# Altium integrated library Resistor.IntLib: 15 symbols
Pins are listed as number, name and electrical type; pins without a type are passive.

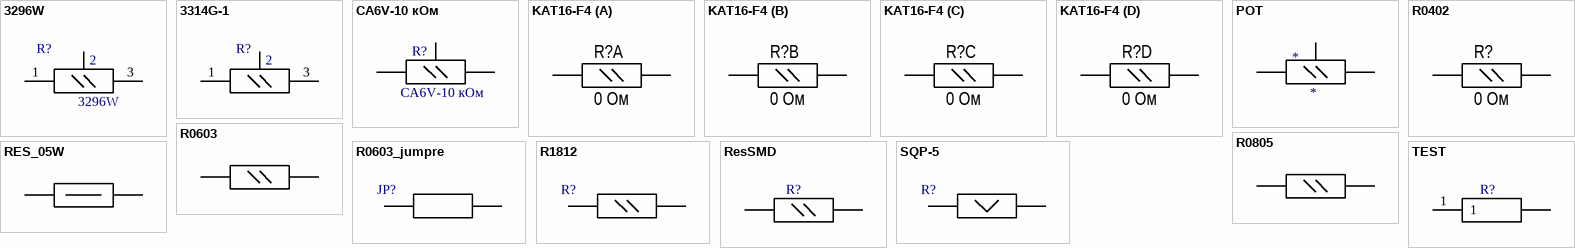
[diagram p0: symbols 3296W to TEST]

## 3296W
designator R?
footprint 3296W
pins: 1, 2, 3

## 3314G-1
designator R?  (value not drawn)
ManufacturerPartNumber: 3314G-1-xxxE; Manufacturer: BOURNS; Rem: *; Package: *; Value: *; Tolerance: *; Power/Voltage: *; TKE: *; Quantity: *; Примечание: *
footprint 3314G
pins: 1, 2, 3

## CA6V-10 кОм
designator R?
footprint CA6V
pins: 1, 2, 3

## KAT16-F4
designator R?, comment 0 Ом
footprint CAT16_F4
part A pins: 1, 2
part B pins: 3, 4
part C pins: 5, 6
part D pins: 7, 8

## POT
designator *
pins: 1, 2, 3

## R0402
designator R?, comment 0 Ом
footprint R0402
pins: 1, 2

## R0603
designator R?  (value not drawn)
Rem: *; Package: 0603; Value: *; Tolerance: *; Power/Voltage: *; TKE: *; ManufacturerPartNumber: *; Manufacturer: *; Quantity: *; Примечание: *
footprint R0603
pins: 1, 2

## R0603_jumpre
designator JP?  (value not drawn)
Rem: *; Package: 0603; Value: *; Tolerance: *; Power/Voltage: *; TKE: *; ManufacturerPartNumber: *; Manufacturer: *; Quantity: *; Примечание: *
footprint R0603_Jumper
pins: 1, 2

## R0805
designator D?  (value not drawn)
Rem: *; Package: 0805; Value: *; Tolerance: *; Power/Voltage: *; TKE: *; ManufacturerPartNumber: *; Manufacturer: *; Quantity: *; Примечание: *
footprint R0805
pins: 1, 2

## R1812
designator R?, comment 0 Ом  (value not drawn)
footprint R1812
pins: 1, 2

## RES_05W
designator R?  (value not drawn)
Rem: *; Корпус: *; Value: *; Tolerance: *; Power/Voltage: *; TKE: *; ManufacturerPartNumber: *; Manufacturer: *; Quantity: *; Примечание: *
footprint RES_05W
footprint RES_05W_V
pins: 1, 2

## ResSMD
designator R?
Rem: *; Package: *; Value: *; Tolerance: *; Power/Voltage: *; TKE: *; ManufacturerPartNumber: *; Manufacturer: *; Quantity: *; Примечание: *
footprint R0603
footprint R1206
footprint R0805
footprint R2512
pins: 1, 2

## SQP-5
designator R?, comment 0 Ом  (value not drawn)
footprint SQP-5
pins: 1, 2

## TEST
designator R?  (value not drawn)
Rem: *; Package: *; Value: *; Tolerance: *; Power/Voltage: *; TKE: *; ManufacturerPartNumber: *; Manufacturer: *; Quantity: *; Примечание: *
footprint TEST
pins: 1, 2

## РЫБА
designator R?  (value not drawn)
Rem: *; Package: *; Value: *; Tolerance: *; Power/Voltage: *; TKE: *; ManufacturerPartNumber: *; Manufacturer: *; Quantity: *; Примечание: *